# EAGLE library part 47309-* (library BluePillF4)
TFR Header with Detect Pin
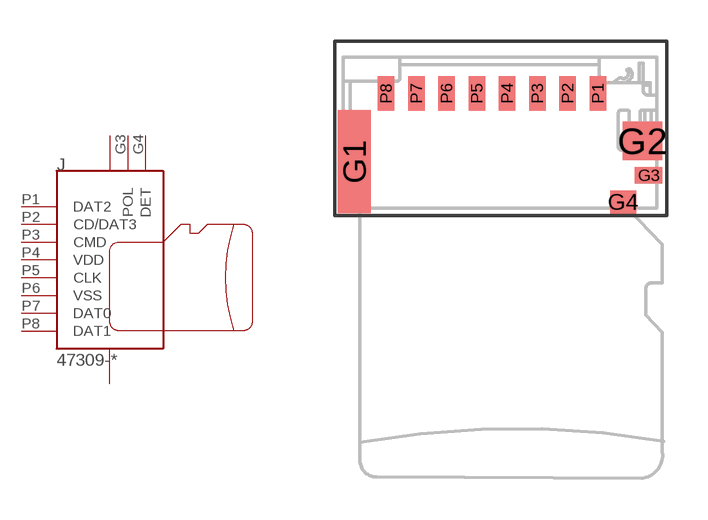
[diagram p6: symbol with the pads of 47309-2851; footprint 47309-2851]

Designator prefix J

## 47309-2851 (HEIGHT: 2.85mm; PARTNO: 47309-2851)  [47309-2851]
G1  GND  pwr
G2  GND  pwr
G3  POL  pas
G4  DET  pas
P1  DAT2
P2  CD/DAT3
P3  CMD  in
P4  VDD  pwr
P5  CLK  in
P6  VSS  pwr
P7  DAT0
P8  DAT1

## Footprint 47309-2851 (pad centres in mm)
TFR Header with Detect Pin
smd 1.2 x 3.75: G1 -5,-2.48
smd 1.45 x 1.4: G2 5.475,-1.725
smd 1 x 0.6: G3 5.7,-2.975
smd 0.95 x 0.85: G4 4.775,-3.95
smd 0.6 x 1.25: P1 3.85,0; P2 2.75,0; P3 1.65,0; P4 0.55,0; P5 -0.55,0; P6 -1.65,0; P7 -2.75,0; P8 -3.85,0